# EAGLE library part MCP6002 (library parts)
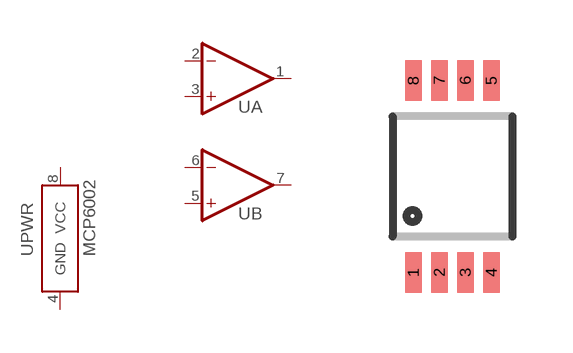
[diagram p3: symbol with the pads of MSOP-8; footprint MSOP-8]

Designator prefix U; gates A=OP-AMP+- B=OP-AMP+- PWR=SUPPLY

## MCP6002MS  [MSOP-8]
1  A:OUT  out
2  A:-IN  in
3  A:+IN  in
4  PWR:GND  pwr
5  B:+IN  in
6  B:-IN  in
7  B:OUT  out
8  PWR:VCC  pwr

## Footprint MSOP-8 (pad centres in mm)
smd 0.41 x 1.02: 1 -0.975,-2.4; 2 -0.325,-2.4; 3 0.325,-2.4; 4 0.975,-2.4; 5 0.975,2.4; 6 0.325,2.4; 7 -0.325,2.4; 8 -0.975,2.4